# EAGLE library part SWITCH.JS202011JXQN (library LinnesLab-Switches)
Manufacturer's Part Numer: JS202011JAQN for right angle throw JS202011JCQN for top side throw
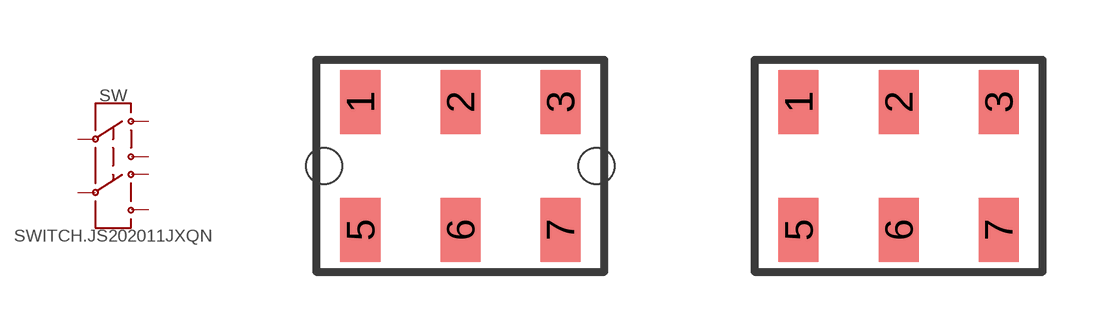
[diagram p2: symbol with the pads of SWITCH.00.THT; footprints SWITCH.00.THT, SWITCH.00]

Designator prefix SW

## SWITCH.JS202011JXQN  [SWITCH.00.THT]
1  1
2  2
3  3
5  4
6  5
7  6

## SWITCH.JS202011JXQNUPWARDS  [SWITCH.00]
Pads as for SWITCH.00.THT

## Footprint SWITCH.00.THT (pad centres in mm)
smd 1 x 1.6: 1 -2.5,1.6; 2 0,1.6; 3 2.5,1.6; 5 -2.5,-1.6; 6 0,-1.6; 7 2.5,-1.6
hole 0.9 at -3.4,0
hole 0.9 at 3.4,0

## Footprint SWITCH.00 (pad centres in mm)
smd 1 x 1.6: 1 -2.5,1.6; 2 0,1.6; 3 2.5,1.6; 5 -2.5,-1.6; 6 0,-1.6; 7 2.5,-1.6